# EAGLE library part LM358 (library Arsenio)
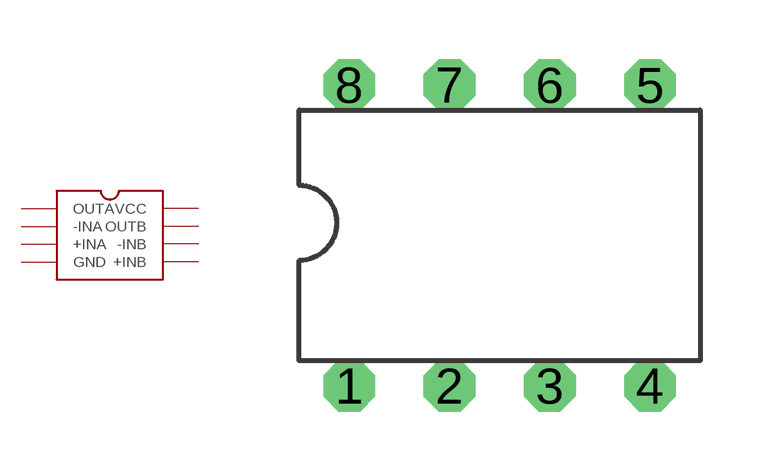
[diagram p4: symbol with the pads of DIP8; footprint DIP8]

Designator prefix -

## LM358  [DIP8]
1  OUTA
2  -INA
3  +INA
4  GND
5  +INB
6  -INB
7  OUTB
8  VCC

## Footprint DIP8 (pad centres in mm)
drill 0.8 octagon: 1 -3.81,-3.81; 2 -1.27,-3.81; 3 1.27,-3.81; 4 3.81,-3.81; 5 3.81,3.81; 6 1.27,3.81; 7 -1.27,3.81; 8 -3.81,3.81